# Altium integrated library SHARP BlueStreak.IntLib: 29 symbols (part 3 of 9)
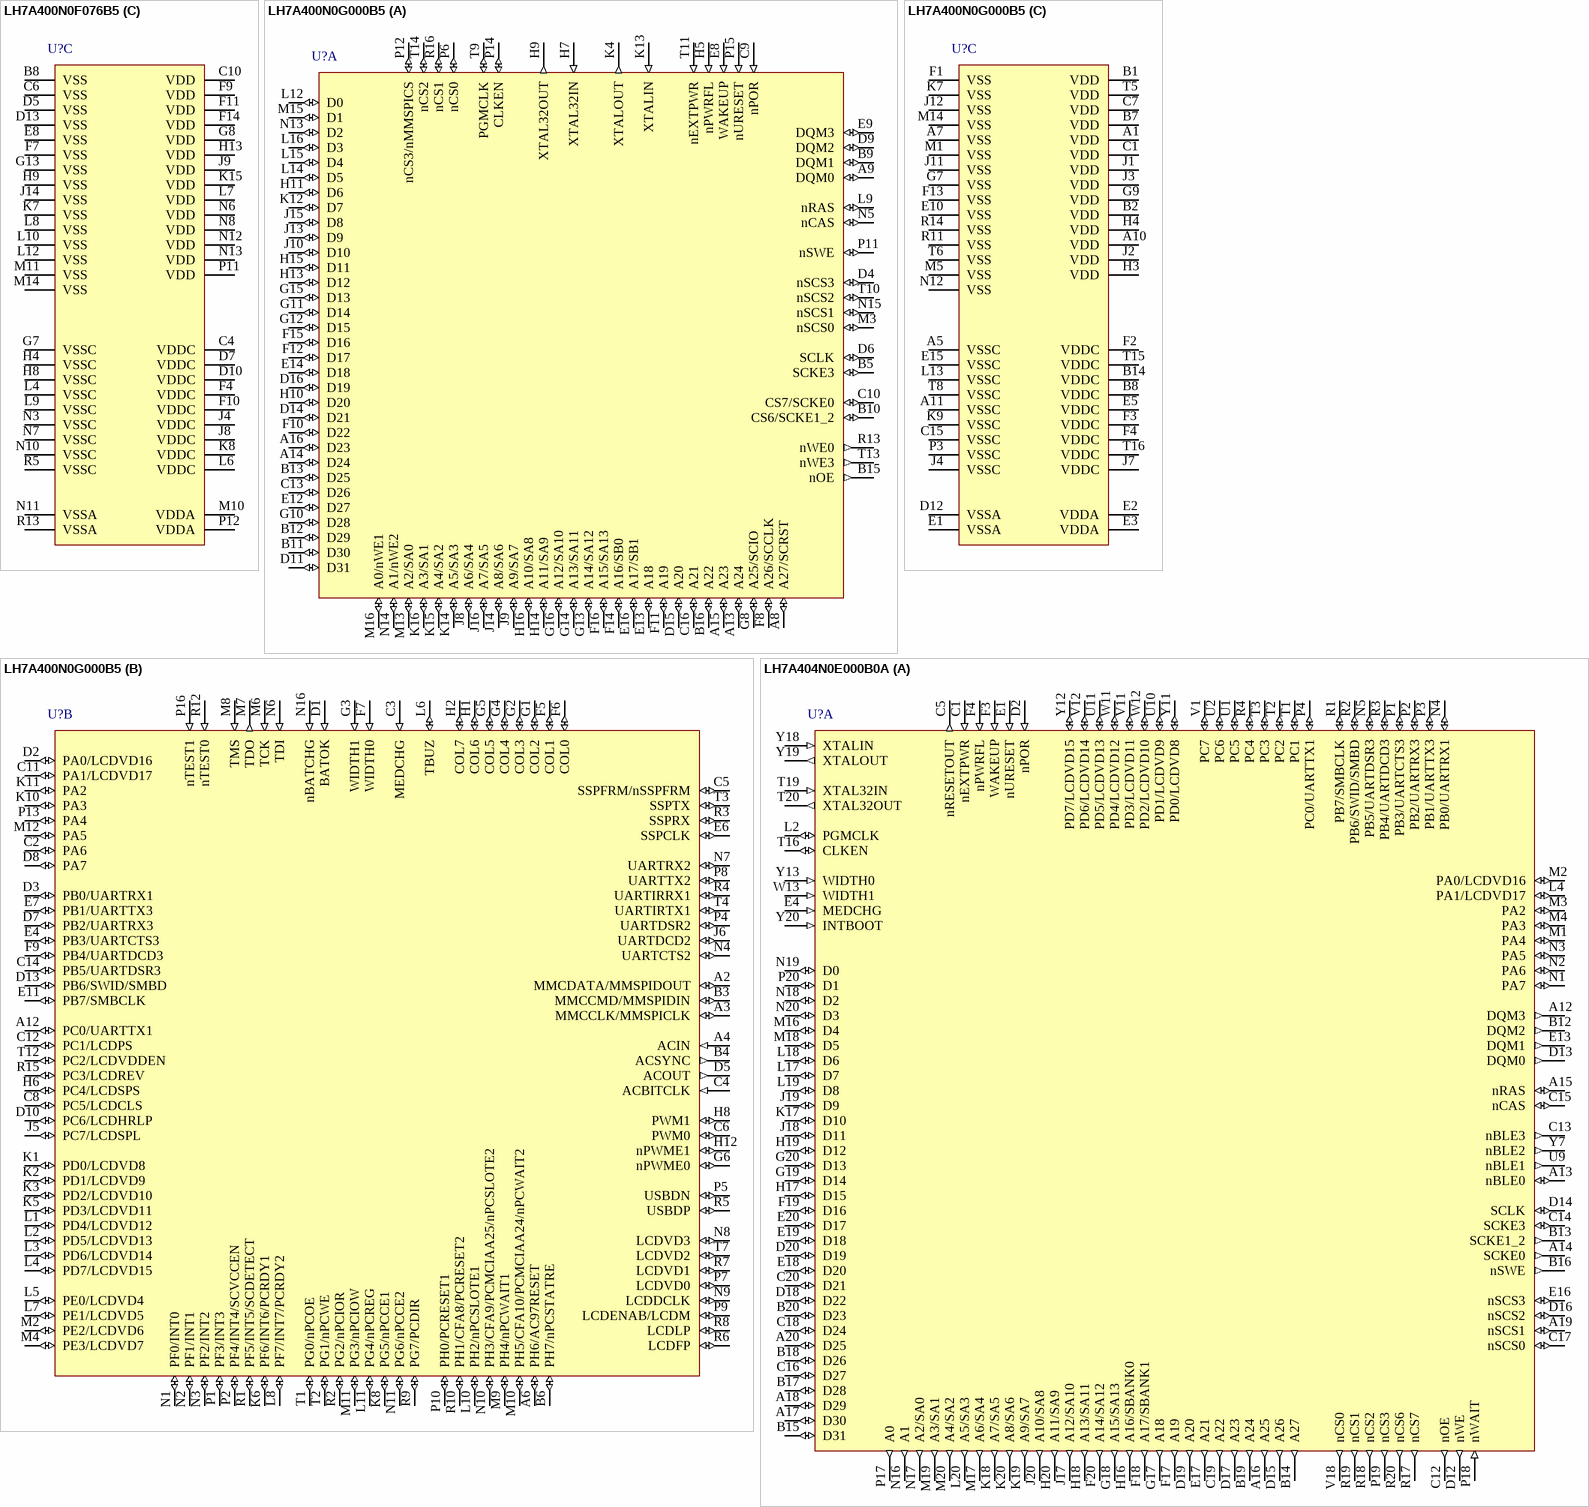
[diagram p35: symbols LH7A400N0F076B5 to LH7A404N0E000B0A]

## LH7A400N0G000B5
designator U?
32-bit ARM9TDMI-Based BlueStreak MMU with 16KB Cache, USB 2.0, JTAG, Color LCD controller, 80KB SRAM, 256-Ball PBGA, Pb-Free; Published: 6-Oct-2005; LatestRevisionDate: 13-Apr-2006; LatestRevisionNote: IPC-7351 Footprint Added.; DatasheetVersion: ver1.2, Nov-2005; PackageVersion: Jan-2005; PackageReference: 256PBGA; Publisher: Altium Limited; PackageDescription: 256-Ball Plastic Ball Grid Array; ComponentLink1Description: Manufacturer Link; ComponentLink1URL: http://www.sharpsma.com/; ComponentLink2Description: Datasheet; ComponentLink2URL: http://document.sharpsma.com/files/LH7A400_DS_V1_2_111505.pdf
footprint 256PBGA (BGA, 256-Leads, Body 17x17mm, Pitch 1mm)
3D model LH7A400-PBGA256 (256-Ball Plastic Ball Grid Array)
part A pins: A8 A27/SCRST (io) "Asynchronous Address Bus/Smart Card Interface Reset", A9 DQM0 (io) "Data Mask for Synchronous Memories", A13 A24 (io) "Asynchronous Address Bus", A14 D24 (io) "Data Bus", A15 A23 (io) "Asynchronous Address Bus", A16 D23 (io) "Data Bus", B5 SCKE3 (io) "Clock Enable 3 for Synchronous Memory", B9 DQM1 (io) "Data Mask for Synchronous Memories", B10 CS6/SCKE1_2 (io) "Asynch Memory Chip Select/Synch Memory Clock Enable 1 or 2", B11 D30 (io) "Data Bus", B12 D29 (io) "Data Bus", B13 D25 (io) "Data Bus", B15 nOE (out) "Asynchronous Memory Output Enable", B16 A22 (io) "Asynchronous Address Bus", C9 nPOR (in) "Power on Reset", C10 CS7/SCKE0 (io) "Asynch Memory Chip Select/Synch Memory Clock Enable", C13 D26 (io) "Data Bus", C16 A21 (io) "Asynchronous Address Bus", D4 nSCS3 (io) "Synchronous Memory Chip Select", D6 SCLK (io) "Synchronous Memory Clock", D9 DQM2 (io) "Data Mask for Synchronous Memories", D11 D31 (io) "Data Bus", D14 D21 (io) "Data Bus", D15 A20 (io) "Asynchronous Address Bus", D16 D19 (io) "Data Bus", E8 WAKEUP (in) "Wake Up", E9 DQM3 (io) "Data Mask for Synchronous Memories", E12 D27 (io) "Data Bus", E13 A18 (io) "Asynchronous Address Bus", E14 D18 (io) "Data Bus", E16 A17/SB1 (io) "Asynchronous Address Bus/Synch Device Bank Address", F8 A26/SCCLK (io) "Asynchronous Address Bus/Smart Card Interface Clock", F10 D22 (io) "Data Bus", F11 A19 (io) "Asynchronous Address Bus", F12 D17 (io) "Data Bus", F14 A16/SB0 (io) "Asynchronous Address Bus/Synch Device Bank Address", F15 D16 (io) "Data Bus", F16 A15/SA13 (io) "Asynchronous Address Bus/Synchronous Address Bus", G8 A25/SCIO (io) "Asynchronous Address Bus/Smart Card Interface IO (Data)", G10 D28 (io) "Data Bus", G11 D14 (io) "Data Bus", G12 D15 (io) "Data Bus", G13 A14/SA12 (io) "Asynchronous Address Bus/Synchronous Address Bus", G14 A13/SA11 (io) "Asynchronous Address Bus/Synchronous Address Bus", G15 D13 (io) "Data Bus", G16 A12/SA10 (io) "Asynchronous Address Bus/Synchronous Address Bus", H5 nPWRFL (in) "Power Fail Signal", H7 XTAL32IN (in) "32.768 kHz Real Time Clock input", H9 XTAL32OUT (out) "32.768 kHz Real Time Clock output", H10 D20 (io) "Data Bus", H11 D6 (io) "Data Bus", H13 D12 (io) "Data Bus", H14 A11/SA9 (io) "Asynchronous Address Bus/Synchronous Address Bus", H15 D11 (io) "Data Bus", H16 A10/SA8 (io) "Asynchronous Address Bus/Synchronous Address Bus", J8 A6/SA4 (io) "Asynchronous Address Bus/Synchronous Address Bus", J9 A9/SA7 (io) "Asynchronous Address Bus/Synchronous Address Bus", J10 D10 (io) "Data Bus", J13 D9 (io) "Data Bus", J14 A8/SA6 (io) "Asynchronous Address Bus/Synchronous Address Bus", J15 D8 (io) "Data Bus", J16 A7/SA5 (io) "Asynchronous Address Bus/Synchronous Address Bus", K4 XTALOUT (out) "14.7456 MHz Crystal Oscillator output", K12 D7 (io) "Data Bus", K13 XTALIN (in) "14.7456 MHz Crystal Oscillator input", K14 A5/SA3 (io) "Asynchronous Address Bus/Synchronous Address Bus", K15 A4/SA2 (io) "Asynchronous Address Bus/Synchronous Address Bus", K16 A3/SA1 (io) "Asynchronous Address Bus/Synchronous Address Bus", L9 nRAS (io) "Synchronous Memory Row Address Strobe", L12 D0 (io) "Data Bus", L14 D5 (io) "Data Bus", L15 D4 (io) "Data Bus", L16 D3 (io) "Data Bus", M3 nSCS0 (io) "Synchronous Memory Chip Select", M13 A2/SA0 (io) "Asynchronous Address Bus/Synchronous Address Bus", M15 D1 (io) "Data Bus", M16 A0/nWE1 (io) "Asynchronous Address Bus/Asynch Memory Write Byte Enable", N5 nCAS (io) "Synchronous Memory Column Address Strobe", N13 D2 (io) "Data Bus", N14 A1/nWE2 (io) "Asynchronous Address Bus/Asynch Memory Write Byte Enable", N15 nSCS1 (io) "Synchronous Memory Chip Select", P6 nCS0 (io) "Asynchronous Memory Chip Select", P11 nSWE (io) "Synchronous Memory Write Enable", P12 nCS3/nMMSPICS (io) "Asynch Memory Chip Select/MultiMediaCard SPI Mode Chip Select", P14 CLKEN (io) "External Oscillator Enable Output", P15 nURESET (in) "User Reset", R13 nWE0 (out) "Asynch Memory Write Byte Enable", R16 nCS1 (io) "Asynchronous Memory Chip Select", T9 PGMCLK (io) "Programmable Clock (14.7456 MHz MAX.)", T10 nSCS2 (io) "Synchronous Memory Chip Select", T11 nEXTPWR (in) "External Power", T13 nWE3 (out) "Asynch Memory Write Byte Enable", T14 nCS2 (io) "Asynchronous Memory Chip Select"
part B pins: A2 MMCDATA/MMSPIDOUT (io) "MultiMediaCard Data/MultiMediaCard SPI Mode Data Output", A3 MMCCLK/MMSPICLK (io) "MultiMediaCard Clock (20 MHz MAX.)/MultiMediaCard SPI Mode Clock", A4 ACIN (in) "Audio Codec (AC97/ACI) Input", A6 PH6/AC97RESET (io) "GPIO - Port H/Audio Codec (AC97) Reset", A12 PC0/UARTTX1 (io) "GPIO - Port C/UART1 Transmit Data Input", B3 MMCCMD/MMSPIDIN (io) "MultiMediaCard Command/MultiMediaCard SPI Mode Data Input", B4 ACSYNC (out) "Audio Codec (AC97/ACI) Synchronization", B6 PH7/nPCSTATRE (io) "GPIO - Port H/Status Read Enable for PC Card (PCMCIA or CompactFlash)", C2 PA6 (io) "GPIO - Port A", C3 MEDCHG (in) "Media Change bit", C4 ACBITCLK (in) "Audio Codec (AC97/ACI) Clock", C5 SSPFRM/nSSPFRM (io) "Synchronous Serial Port Frame Sync", C6 PWM0 (io) "DC-DC Converter Output (Pulse Width Modulated)", C8 PC5/LCDCLS (io) "GPIO - Port C/HR-TFT Row Driver Clock", C11 PA1/LCDVD17 (io) "GPIO - Port ALCD Data pin", C12 PC1/LCDPS (io) "GPIO - Port C/HR-TFT Power Save", C14 PB5/UARTDSR3 (io) "GPIO - Port B/UART3 Data Set Ready", D1 BATOK (in) "Battery OK", D2 PA0/LCDVD16 (io) "GPIO - Port A/LCD Data pin", D3 PB0/UARTRX1 (io) "GPIO - Port B/UART1 Receive Data Input", D5 ACOUT (out) "Audio Codec (AC97/ACI) Output", D7 PB2/UARTRX3 (io) "GPIO - Port B/UART3 Receive Data Input", D8 PA7 (io) "GPIO - Port A", D10 PC6/LCDHRLP (io) "GPIO - Port C/LCD Latch Pulse", D13 PB6/SWID/SMBD (io) "GPIO - Port B/Single Wire Data/Smart Battery Data", E4 PB3/UARTCTS3 (io) "GPIO - Port B/UART3 Clear to Send", E6 SSPCLK (io) "Synchronous Serial Port Clock", E7 PB1/UARTTX3 (io) "GPIO - Port B/UART3 Transmit Data Input", E11 PB7/SMBCLK (io) "GPIO - Port B/Smart Battery Clock", F5 COL1 (io) "Keyboard Interface", F6 COL0 (io) "Keyboard Interface", F7 WIDTH0 (in) "Boot Width Pins", F9 PB4/UARTDCD3 (io) "GPIO - Port B/UART3 Data Carrier Detect", G1 COL2 (io) "Keyboard Interface", G2 COL3 (io) "Keyboard Interface", G3 WIDTH1 (in) "Boot Width Pins", G4 COL4 (io) "Keyboard Interface", G5 COL5 (io) "Keyboard Interface", G6 nPWME0 (io) "DC-DC Converter 0 PWM 0 Enable", H1 COL6 (io) "Keyboard Interface", H2 COL7 (io) "Keyboard Interface", H6 PC4/LCDSPS (io) "GPIO - Port C/HR-TFT Reset Row Driver Counter", H8 PWM1 (io) "DC-DC Converter Output (Pulse Width Modulated)", H12 nPWME1 (io) "DC-DC Converter 1 PWM 1 Enable", J5 PC7/LCDSPL (io) "GPIO - Port C/LCD Start Pulse Left", J6 UARTDCD2 (io) "UART2 Data Carrier Detect Signal", K1 PD0/LCDVD8 (io) "GPIO - Port D/LCD Data pin", K2 PD1/LCDVD9 (io) "GPIO - Port D/LCD Data pin", K3 PD2/LCDVD10 (io) "GPIO - Port D/LCD Data pin", K5 PD3/LCDVD11 (io) "GPIO - Port D/LCD Data pin", K6 PF6/INT6/PCRDY1 (io) "GPIO - Port F/Interrupt/Ready for Card 1 for PC Card (PCMCIA or CompactFlash)", K8 PG5/nPCCE1 (io) "GPIO - Port G/Card Enable 1 for PC Card (PCMCIA or CompactFlash)", K10 PA3 (io) "GPIO - Port A", K11 PA2 (io) "GPIO - Port A", L1 PD4/LCDVD12 (io) "GPIO - Port D/LCD Data pin", L2 PD5/LCDVD13 (io) "GPIO - Port D/LCD Data pin", L3 PD6/LCDVD14 (io) "GPIO - Port D/LCD Data pin", L4 PD7/LCDVD15 (io) "GPIO - Port D/LCD Data pin", L5 PE0/LCDVD4 (io) "GPIO - Port E/LCD Data pin", L6 TBUZ (io) "Timer Buzzer Output (254 kHz MAX.)", L7 PE1/LCDVD5 (io) "GPIO - Port E/LCD Data pin", L8 PF7/INT7/PCRDY2 (io) "GPIO - Port F/Interrupt/Ready for Card 2 for PC Card (PCMCIA or CompactFlash)", L10 PH2/nPCSLOTE1 (io) "GPIO - Port H/Enable Card 1 for PC Card (PCMCIA or CompactFlash)", L11 PG4/nPCREG (io) "GPIO - Port G/Register Memory Access for PC Card (PCMCIA or CompactFlash)", M2 PE2/LCDVD6 (io) "GPIO - Port E/LCD Data pin", M4 PE3/LCDVD7 (io) "GPIO - Port E/LCD Data pin", M6 TCK (in) "JTAG Clock", M7 TDO (out) "JTAG Data Out", M8 TMS (in) "JTAG Test Mode Select", M9 PH4/nPCWAIT1 (io) "GPIO - Port H//WAIT Signal for Card 1 for PC Card (PCMCIA or CompactFlash)", M10 PH5/CFA10/PCMCIAA24/nPCWAIT2 (io) "GPIO - Port H/Address Bit 10 for PC Card (CompactFlash) in Single Card mode/Address Bit 24 for PC Card (PCMCIA) in Single Card mode/WAIT Signal for Card 2 for PC Card (PCMCIA or CompactFlash) in Dual Card mode", M11 PG3/nPCIOW (io) "GPIO - Port G/IO Write Strobe for PC Card (PCMCIA or CompactFlash)", M12 PA5 (io) "GPIO - Port A", N1 PF0/INT0 (io) "GPIO - Port F/Interrupt", N2 PF1/INT1 (io) "GPIO - Port F/Interrupt", N3 PF2/INT2 (io) "GPIO - Port F/Interrupt", N4 UARTCTS2 (io) "UART2 Clear to Send Signal", N6 TDI (in) "JTAG Data In", N7 UARTRX2 (io) "UART2 Receive Data Input", N8 LCDVD3 (io) "LCD Video Data Interface", N9 LCDDCLK (io) "LCD Pixel Clock", N10 PH3/CFA9/PCMCIAA25/nPCSLOTE2 (io) "GPIO - Port H/Address Bit 9 for PC Card (CompactFlash) in Single Card mode/Address Bit 25 for PC Card (PCMCIA)/Enable Card 2 for PC Card (PCMCIA or CompactFlash)", N11 PG6/nPCCE2 (io) "GPIO - Port G/Card Enable 2 for PC Card (PCMCIA or CompactFlash)", N16 nBATCHG (in) "Battery Change", P1 PF3/INT3 (io) "GPIO - Port F/Interrupt", P2 PF4/INT4/SCVCCEN (io) "GPIO - Port F/External IRQ Interrupt/Smart Card Supply Voltage Enable", P4 UARTDSR2 (io) "UART2 Data Set Ready Signal", P5 USBDN (io) "USB Device Data Negative (Differential Pair)", P7 LCDVD0 (io) "LCD Video Data Interface", P8 UARTTX2 (io) "UART2 Transmit Data Output", P9 LCDENAB/LCDM (io) "LCD TFT Data Enable/LCD STN AC Bias", P10 PH0/PCRESET1 (io) "GPIO - Port H/Reset Card 1 for PC Card (PCMCIA or CompactFlash)", P13 PA4 (io) "GPIO - Port A", P16 nTEST1 (in) "Test Pin. Pull LOW for JTAG mode", R1 PF5/INT5/SCDETECT (io) "GPIO - Port F/Interrupt/Smart Card Interface Card Detect Signal", R2 PG2/nPCIOR (io) "GPIO - Port G/IO Read Strobe for PC Card (PCMCIA or CompactFlash)", R3 SSPRX (io) "Synchronous Serial Port Receive", R4 UARTIRRX1 (io) "IrDA Receive", R5 USBDP (io) "USB Device Data Positive (Differential Pair)", R6 LCDFP (io) "LCD Frame Synchronization pulse", R7 LCDVD1 (io) "LCD Video Data Interface", R8 LCDLP (io) "LCD Line Synchronization pulse", R9 PG7/PCDIR (io) "GPIO - Port G/Direction for PC Card (PCMCIA or CompactFlash)", R10 PH1/CFA8/PCRESET2 (io) "GPIO - Port H/Address Bit 8 for PC Card (CompactFlash)/Reset Card 2 for PC Card (PCMCIA or CompactFlash)", R12 nTEST0 (in) "Test Pin. Pull LOW for JTAG mode", R15 PC3/LCDREV (io) "GPIO - Port C/HR-TFT Gray Reverse", T1 PG0/nPCOE (io) "GPIO - Port G/Output Enable for PC Card (PCMCIA or CompactFlash)", T2 PG1/nPCWE (io) "GPIO - Port G/Write Enable for PC Card (PCMCIA or CompactFlash)", T3 SSPTX (io) "Synchronous Serial Port Transmit", T4 UARTIRTX1 (io) "IrDA Transmit", T7 LCDVD2 (io) "LCD Video Data Interface", T12 PC2/LCDVDDEN (io) "GPIO - Port C/HR-TFT Power Sequence Control"
part C pins: A1 VDD (power) "I/O Ring Power", A5 VSSC (power) "Core Ground", A7 VSS (power) "I/O Ring Ground", A10 VDD (power) "I/O Ring Power", A11 VSSC (power) "Core Ground", B1 VDD (power) "I/O Ring Power", B2 VDD (power) "I/O Ring Power", B7 VDD (power) "I/O Ring Power", B8 VDDC (power) "Core Power", B14 VDDC (power) "Core Power", C1 VDD (power) "I/O Ring Power", C7 VDD (power) "I/O Ring Power", C15 VSSC (power) "Core Ground", D12 VSSA (power) "Analog Ground for PLL1 and PLL2", E1 VSSA (power) "Analog Ground for PLL1 and PLL2", E2 VDDA (power) "Analog Power for PLL1 and PLL2", E3 VDDA (power) "Analog Power for PLL1 and PLL2", E5 VDDC (power) "Core Power", E10 VSS (power) "I/O Ring Ground", E15 VSSC (power) "Core Ground", F1 VSS (power) "I/O Ring Ground", F2 VDDC (power) "Core Power", F3 VDDC (power) "Core Power", F4 VDDC (power) "Core Power", F13 VSS (power) "I/O Ring Ground", G7 VSS (power) "I/O Ring Ground", G9 VDD (power) "I/O Ring Power", H3 VDD (power) "I/O Ring Power", H4 VDD (power) "I/O Ring Power", J1 VDD (power) "I/O Ring Power", J2 VDD (power) "I/O Ring Power", J3 VDD (power) "I/O Ring Power", J4 VSSC (power) "Core Ground", J7 VDDC (power) "Core Power", J11 VSS (power) "I/O Ring Ground", J12 VSS (power) "I/O Ring Ground", K7 VSS (power) "I/O Ring Ground", K9 VSSC (power) "Core Ground", L13 VSSC (power) "Core Ground", M1 VSS (power) "I/O Ring Ground", M5 VSS (power) "I/O Ring Ground", M14 VSS (power) "I/O Ring Ground", N12 VSS (power) "I/O Ring Ground", P3 VSSC (power) "Core Ground", R11 VSS (power) "I/O Ring Ground", R14 VSS (power) "I/O Ring Ground", T5 VDD (power) "I/O Ring Power", T6 VSS (power) "I/O Ring Ground", T8 VSSC (power) "Core Ground", T15 VDDC (power) "Core Power", T16 VDDC (power) "Core Power"

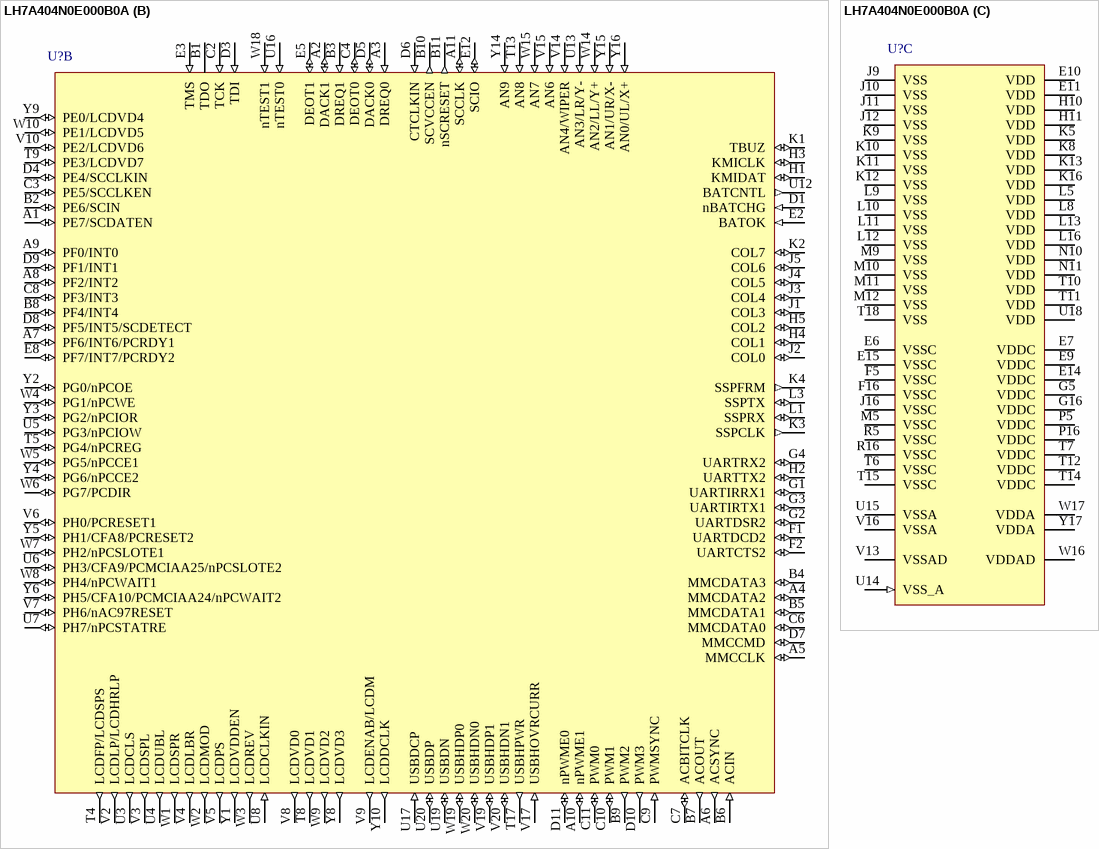
[diagram p5: symbol LH7A404N0E000B0A]

## LH7A404N0E000B0A
designator U?
32-bit ARM9TDMI-Based BlueStreak MMU with 16KB Cache, USB 2.0, JTAG, Color LCD controller, 80KB SRAM, 324-Ball CABGA; Published: 6-Oct-2005; LatestRevisionDate: 13-Apr-2006; LatestRevisionNote: IPC-7351 Footprint Added.; DatasheetVersion: ver1.4, Apr-2006; PackageVersion: Jan-2005; PackageReference: 324CABGA; Publisher: Altium Limited; PackageDescription: 324-Ball Chip Array Ball Grid Array; ComponentLink1Description: Manufacturer Link; ComponentLink1URL: http://www.sharpsma.com/; ComponentLink2Description: Datasheet; ComponentLink2URL: http://document.sharpsma.com/files/LH7A404_DS_V1_4_041406.pdf
footprint 324CABGA (BGA, 324-Leads, Body 17x17mm, Pitch 0.8mm)
3D model LH7A404-CABGA324 (324-Ball Chip Array Ball Grid Array)
part A pins: A12 DQM3 (out) "Data Mask for Synchronous Memories", A13 nBLE0 (io) "Byte Lane Enable 0", A14 SCKE0 (out) "Clock Enable 0 for Synchronous Memory", A15 nRAS (io) "Synchronous Memory Row Address Strobe", A16 A25 (out) "Asynchronous Address Bus", A17 D30 (io) "Data Bus", A18 D29 (io) "Data Bus", A19 nSCS1 (io) "Synchronous Memory Chip Select", A20 D25 (io) "Data Bus", B12 DQM2 (out) "Data Mask for Synchronous Memories", B13 SCKE1_2 (out) "Clock Enable 1 or 2 for Synchronous Memory", B14 A27 (out) "Asynchronous Address Bus", B15 D31 (io) "Data Bus", B16 nSWE (out) "Synchronous Memory Write Enable", B17 D28 (io) "Data Bus", B18 D26 (io) "Data Bus", B19 A24 (out) "Asynchronous Address Bus", B20 D23 (io) "Data Bus", C1 nEXTPWR (in) "External Power", C5 nRESETOUT (out) "Reset Output to external devices", C12 nOE (out) "Asynchronous Memory Output Enable", C13 nBLE3 (out) "Byte Lane Enable 3", C14 SCKE3 (io) "Clock Enable 3 for Synchronous Memory", C15 nCAS (io) "Synchronous Memory Column Address Strobe", C16 D27 (io) "Data Bus", C17 nSCS0 (io) "Synchronous Memory Chip Select", C18 D24 (io) "Data Bus", C19 A22 (out) "Asynchronous Address Bus", C20 D21 (io) "Data Bus", D2 nPOR (in) "Power on Reset", D12 nWE (out) "Asynchronous Memory Write Enable", D13 DQM0 (out) "Data Mask for Synchronous Memories", D14 SCLK (io) "Synchronous Memory Clock", D15 A26 (out) "Asynchronous Address Bus", D16 nSCS2 (io) "Synchronous Memory Chip Select", D17 A23 (out) "Asynchronous Address Bus", D18 D22 (io) "Data Bus", D19 A20 (out) "Asynchronous Address Bus", D20 D19 (io) "Data Bus", E1 nURESET (in) "User Reset", E4 MEDCHG (in) "Media Change bit", E13 DQM1 (out) "Data Mask for Synchronous Memories", E16 nSCS3 (io) "Synchronous Memory Chip Select", E17 A21 (out) "Asynchronous Address Bus", E18 D20 (io) "Data Bus", E19 D18 (io) "Data Bus", E20 D17 (io) "Data Bus", F3 WAKEUP (in) "Wake Up", F4 nPWRFL (in) "Power Fail Signal", F17 A19 (out) "Asynchronous Address Bus", F18 A17/SBANK1 (out) "Asynchronous Address Bus/Synchronous Bank", F19 D16 (io) "Data Bus", F20 A14/SA12 (out) "Asynchronous Address Bus/Synchronous Address Bus", G17 A18 (out) "Asynchronous Address Bus", G18 A15/SA13 (out) "Asynchronous Address Bus/Synchronous Address Bus", G19 D14 (io) "Data Bus", G20 D13 (io) "Data Bus", H16 A16/SBANK0 (out) "Asynchronous Address Bus/Synchronous Bank", H17 D15 (io) "Data Bus", H18 A13/SA11 (out) "Asynchronous Address Bus/Synchronous Address Bus", H19 D12 (io) "Data Bus", H20 A11/SA9 (out) "Asynchronous Address Bus/Synchronous Address Bus", J17 A12/SA10 (out) "Asynchronous Address Bus/Synchronous Address Bus", J18 D11 (io) "Data Bus", J19 D9 (io) "Data Bus", J20 A10/SA8 (out) "Asynchronous Address Bus/Synchronous Address Bus", K17 D10 (io) "Data Bus", K18 A7/SA5 (out) "Asynchronous Address Bus/Synchronous Address Bus", K19 A9/SA7 (out) "Asynchronous Address Bus/Synchronous Address Bus", K20 A8/SA6 (out) "Asynchronous Address Bus/Synchronous Address Bus", L2 PGMCLK (io) "Programmable Clock (14.7456 MHz MAX.)", L4 PA1/LCDVD17 (io) "GPIO - Port ALCD Data pin", L17 D7 (io) "Data Bus", L18 D6 (io) "Data Bus", L19 D8 (io) "Data Bus", L20 A5/SA3 (out) "Asynchronous Address Bus/Synchronous Address Bus", M1 PA4 (io) "GPIO - Port A", M2 PA0/LCDVD16 (io) "GPIO - Port A/LCD Data pin", M3 PA2 (io) "GPIO - Port A", M4 PA3 (io) "GPIO - Port A", M16 D4 (io) "Data Bus", M17 A6/SA4 (out) "Asynchronous Address Bus/Synchronous Address Bus", M18 D5 (io) "Data Bus", M19 A3/SA1 (out) "Asynchronous Address Bus/Synchronous Address Bus", M20 A4/SA2 (out) "Asynchronous Address Bus/Synchronous Address Bus", N1 PA7 (io) "GPIO - Port A", N2 PA6 (io) "GPIO - Port A", N3 PA5 (io) "GPIO - Port A", N4 PB0/UARTRX1 (io) "GPIO - Port B/UART1 Receive Data Input", N5 PB5/UARTDSR3 (io) "GPIO - Port B/UART3 Data Set Ready", N16 A1 (out) "Asynchronous Address Bus", N17 A2/SA0 (out) "Asynchronous Address Bus/Synchronous Address Bus", N18 D2 (io) "Data Bus", N19 D0 (io) "Data Bus", N20 D3 (io) "Data Bus", P1 PB3/UARTCTS3 (io) "GPIO - Port B/UART3 Clear to Send", P2 PB2/UARTRX3 (io) "GPIO - Port B/UART3 Receive Data Input", P3 PB1/UARTTX3 (io) "GPIO - Port B/UART3 Transmit Data Input", P4 PC0/UARTTX1 (io) "GPIO - Port C/UART1 Transmit Data Input", P17 A0 (out) "Asynchronous Address Bus", P18 nWAIT (in) "Asynchronous Memory Wait; pull HIGH if unused", P19 nCS3 (out) "Asynchronous Memory Chip Select", P20 D1 (io) "Data Bus", R1 PB7/SMBCLK (io) "GPIO - Port B/Smart Battery Clock", R2 PB6/SWID/SMBD (io) "GPIO - Port B/Single Wire Data/Smart Battery Data", R3 PB4/UARTDCD3 (io) "GPIO - Port B/UART3 Data Carrier Detect", R4 PC4 (io) "GPIO - Port C", R17 nCS7 (out) "Asynchronous Memory Chip Select", R18 nCS2 (out) "Asynchronous Memory Chip Select", R19 nCS1 (out) "Asynchronous Memory Chip Select", R20 nCS6 (out) "Asynchronous Memory Chip Select", T1 PC1 (io) "GPIO - Port C", T2 PC2 (io) "GPIO - Port C", T3 PC3 (io) "GPIO - Port C", T16 CLKEN (io) "External Oscillator Enable Output", T19 XTAL32IN (in) "32.768 kHz Real Time Clock input", T20 XTAL32OUT (out) "32.768 kHz Real Time Clock output", U1 PC5 (io) "GPIO - Port C", U2 PC6 (io) "GPIO - Port C", U9 nBLE1 (out) "Byte Lane Enable 1", U10 PD1/LCDVD9 (io) "GPIO - Port D/LCD Data pin", U11 PD5/LCDVD13 (io) "GPIO - Port D/LCD Data pin", V1 PC7 (io) "GPIO - Port C", V11 PD3/LCDVD11 (io) "GPIO - Port D/LCD Data pin", V12 PD6/LCDVD14 (io) "GPIO - Port D/LCD Data pin", V18 nCS0 (out) "Asynchronous Memory Chip Select", W11 PD4/LCDVD12 (io) "GPIO - Port D/LCD Data pin", W12 PD2/LCDVD10 (io) "GPIO - Port D/LCD Data pin", W13 WIDTH1 (in) "Boot Width Pins", Y7 nBLE2 (out) "Byte Lane Enable 2", Y11 PD0/LCDVD8 (io) "GPIO - Port D/LCD Data pin", Y12 PD7/LCDVD15 (io) "GPIO - Port D/LCD Data pin", Y13 WIDTH0 (in) "Boot Width Pins", Y18 XTALIN (in) "14.7456 MHz Crystal Oscillator input", Y19 XTALOUT (out) "14.7456 MHz Crystal Oscillator output", Y20 INTBOOT (in) "(Low) Selects boot device according to MEDCHG bit. (High) lower 64KB addresses mapped to internal Boot ROM"
part B pins: A1 PE7/SCDATEN (io) "GPIO - Port E", A2 DACK1 (io) "DMA Acknowledge", A3 DREQ0 (in) "DMA Request", A4 MMCDATA2 (io) "MultiMediaCard Data", A5 MMCCLK (io) "MultiMediaCard Clock (20 MHz MAX.)", A6 ACSYNC (out) "Audio Codec (AC97/ACI) Synchronization", A7 PF6/INT6/PCRDY1 (io) "GPIO - Port F/Interrupt/Ready for Card 1 for PC Card (PCMCIA or CompactFlash)", A8 PF2/INT2 (io) "GPIO - Port F/Interrupt", A9 PF0/INT0 (io) "GPIO - Port F/Interrupt", A10 nPWME1 (io) "DC-DC Converter 1 PWM 1 Enable", A11 SCCLK (io) "Smart Card Interface Clock", B1 TDO "JTAG Data Out", B2 PE6/SCIN (io) "GPIO - Port E", B3 DREQ1 (in) "DMA Request", B4 MMCDATA3 (io) "MultiMediaCard Data", B5 MMCDATA1 (io) "MultiMediaCard Data", B6 ACIN (in) "Audio Codec (AC97/ACI) Input", B7 ACOUT (out) "Audio Codec (AC97/ACI) Output", B8 PF4/INT4 (io) "GPIO - Port F/Interrupt", B9 PWM2 (out) "PWM Output", B10 SCVCCEN (out) "Smart Card Interface VCC Enable", B11 nSCRESET (out) "Smart Card Interface Reset", C2 TCK (in) "JTAG Clock", C3 PE5/SCCLKEN (io) "GPIO - Port E", C4 DEOT0 (io) "DMA End of Transfer", C6 MMCDATA0 (io) "MultiMediaCard Data", C7 ACBITCLK (io) "Audio Codec (AC97/ACI) Clock", C8 PF3/INT3 (io) "GPIO - Port F/Interrupt", C9 PWMSYNC (in) "PWM Synchronizing Input for PWM2", C10 PWM1 (io) "DC-DC Converter Output (Pulse Width Modulated)", C11 PWM0 (io) "DC-DC Converter Output (Pulse Width Modulated)", D1 nBATCHG (in) "Battery Change", D3 TDI (in) "JTAG Data In", D4 PE4/SCCLKIN (io) "GPIO - Port E", D5 DACK0 (io) "DMA Acknowledge", D6 CTCLKIN (in) "Counter Timer Clock Input", D7 MMCCMD (io) "MultiMediaCard Command", D8 PF5/INT5/SCDETECT (io) "GPIO - Port F/Interrupt/Smart Card Interface Card Detect Signal", D9 PF1/INT1 (io) "GPIO - Port F/Interrupt", D10 PWM3 (out) "PWM Output", D11 nPWME0 (io) "DC-DC Converter 0 PWM 0 Enable", E2 BATOK (in) "Battery OK", E3 TMS (in) "JTAG Test Mode Select", E5 DEOT1 (io) "DMA End of Transfer", E8 PF7/INT7/PCRDY2 (io) "GPIO - Port F/Interrupt/Ready for Card 2 for PC Card (PCMCIA or CompactFlash)", E12 SCIO (io) "Smart Card Interface I/O", F1 UARTDCD2 (io) "UART2 Data Carrier Detect Signal", F2 UARTCTS2 (io) "UART2 Clear to Send Signal", G1 UARTIRRX1 (io) "IrDA Receive", G2 UARTDSR2 (io) "UART2 Data Set Ready Signal", G3 UARTIRTX1 (io) "IrDA Transmit", G4 UARTRX2 (io) "UART2 Receive Data Input", H1 KMIDAT (io) "Keyboard/Mouse Data", H2 UARTTX2 (io) "UART2 Transmit Data Output", H3 KMICLK (io) "Keyboard/Mouse Clock", H4 COL1 (io) "Keyboard Interface", H5 COL2 (io) "Keyboard Interface", J1 COL3 (io) "Keyboard Interface", J2 COL0 (io) "Keyboard Interface", J3 COL4 (io) "Keyboard Interface", J4 COL5 (io) "Keyboard Interface", J5 COL6 (io) "Keyboard Interface", K1 TBUZ (io) "Timer Buzzer Output (254 kHz MAX.)", K2 COL7 (io) "Keyboard Interface", K3 SSPCLK (out) "Synchronous Serial Port Clock", K4 SSPFRM (out) "Synchronous Serial Port Frame Sync", L1 SSPRX (io) "Synchronous Serial Port Receive", L3 SSPTX (io) "Synchronous Serial Port Transmit", T4 LCDFP/LCDSPS (out) "LCD Frame Pulse/ALI Reset Row Driver Counter", T5 PG4/nPCREG (io) "GPIO - Port G/Register Memory Access for PC Card (PCMCIA or CompactFlash)", T8 LCDVD1 (out) "LCD Video Data Interface", T9 PE3/LCDVD7 (io) "GPIO - Port E/LCD Data pin", T13 AN8 (in) "ADC Input", T17 USBHPWR (out) "USB Host Power", U3 LCDCLS (out) "ALI Clock for Row Drivers", U4 LCDUBL (out) "ALI Up, Down signal for reverse scanning", U5 PG3/nPCIOW (io) "GPIO - Port G/IO Write Strobe for PC Card (PCMCIA or CompactFlash)", U6 PH3/CFA9/PCMCIAA25/nPCSLOTE2 (io) "GPIO - Port H/Address Bit 9 for PC Card (CompactFlash) in Single Card mode/Address Bit 25 for PC Card (PCMCIA)/Enable Card 2 for PC Card (PCMCIA or CompactFlash)", U7 PH7/nPCSTATRE (io) "GPIO - Port H/Status Read Enable for PC Card (PCMCIA or CompactFlash)", U8 LCDCLKIN (in) "External Clock Input for LCD controller", U12 BATCNTL (out) "Battery Control for A/D controller battery monitor", U13 AN3/LR/Y- (in) "ADC Input/Touch Screen Controller Lower Right/Touch Screen Controller Y-", U16 nTEST0 (in) "Test Pin. Pull LOW for JTAG mode", U17 USBDCP (in) "USB Device Full Speed Pull-up Resistor Control", U19 USBDN (io) "USB Device Data Negative (Differential Pair)", U20 USBDP (io) "USB Device Data Positive (Differential Pair)", V2 LCDLP/LCDHRLP (out) "LCD Linepulse/ALI Latch Pulse", V3 LCDSPL (out) "ALI Start Pulse Left for reverse scanning", V4 LCDLBR (out) "ALI Output for reverse scanning", V5 LCDPS (out) "ALI Power Save", V6 PH0/PCRESET1 (io) "GPIO - Port H/Reset Card 1 for PC Card (PCMCIA or CompactFlash)", V7 PH6/nAC97RESET (io) "GPIO - Port H/AC97 Reset", V8 LCDVD0 (out) "LCD Video Data Interface", V9 LCDENAB/LCDM (out) "LCD TFT Data Enable/LCD STN AC Bias", V10 PE2/LCDVD6 (io) "GPIO - Port E/LCD Data pin", V14 AN4/WIPER (in) "ADC Input/Wiper input from 5-wire Touch Screen", V15 AN6 (in) "ADC Input", V17 USBHOVRCURR (in) "USB Host Overcurrent", V19 USBHDP1 (io) "USB Data Host Positive 1 (Differential Pair)", V20 USBHDN1 (io) "USB Data Host Negative 1 (Differential Pair)", W1 LCDSPR (out) "ALI Start Pulse Right for normal scanning", W2 LCDMOD (out) "ALI MOD Signal used by the row driver", W3 LCDREV (out) "ALI Reverse", W4 PG1/nPCWE (io) "GPIO - Port G/Write Enable for PC Card (PCMCIA or CompactFlash)", W5 PG5/nPCCE1 (io) "GPIO - Port G/Card Enable 1 for PC Card (PCMCIA or CompactFlash)", W6 PG7/PCDIR (io) "GPIO - Port G/Direction for PC Card (PCMCIA or CompactFlash)", W7 PH2/nPCSLOTE1 (io) "GPIO - Port H/Enable Card 1 for PC Card (PCMCIA or CompactFlash)", W8 PH4/nPCWAIT1 (io) "GPIO - Port H//WAIT Signal for Card 1 for PC Card (PCMCIA or CompactFlash)", W9 LCDVD2 (out) "LCD Video Data Interface", W10 PE1/LCDVD5 (io) "GPIO - Port E/LCD Data pin", W14 AN2/LL/Y+ (in) "ADC Input/Touch Screen Controller Lower Left/Touch Screen Controller Y", W15 AN7 (in) "ADC Input", W18 nTEST1 (in) "Test Pin. Pull LOW for JTAG mode", W19 USBHDP0 (io) "USB Data Host Positive 0 (Differential Pair)", W20 USBHDN0 (io) "USB Data Host Negative 0 (Differential Pair)", Y1 LCDVDDEN (out) "ALI Power Sequence Control", Y2 PG0/nPCOE (io) "GPIO - Port G/Output Enable for PC Card (PCMCIA or CompactFlash)", Y3 PG2/nPCIOR (io) "GPIO - Port G/IO Read Strobe for PC Card (PCMCIA or CompactFlash)", Y4 PG6/nPCCE2 (io) "GPIO - Port G/Card Enable 2 for PC Card (PCMCIA or CompactFlash)", Y5 PH1/CFA8/PCRESET2 (io) "GPIO - Port H/Address Bit 8 for PC Card (CompactFlash)/Reset Card 2 for PC Card (PCMCIA or CompactFlash)", Y6 PH5/CFA10/PCMCIAA24/nPCWAIT2 (io) "GPIO - Port H/Address Bit 10 for PC Card (CompactFlash) in Single Card mode/Address Bit 24 for PC Card (PCMCIA) in Single Card mode/WAIT Signal for Card 2 for PC Card (PCMCIA or CompactFlash) in Dual Card mode", Y8 LCDVD3 (out) "LCD Video Data Interface", Y9 PE0/LCDVD4 (io) "GPIO - Port E/LCD Data pin", Y10 LCDDCLK (out) "LCD Pixel Clock", Y14 AN9 (in) "ADC Input", Y15 AN1/UR/X- (in) "ADC Input/Touch Screen Controller Upper Right/Touch Screen Controller X-", Y16 AN0/UL/X+ (in) "ADC Input/Touch Screen Controller Upper Left/Touch Screen Controller X"
part C pins: E6 VSSC (power) "Core Ground", E7 VDDC (power) "Core Power", E9 VDDC (power) "Core Power", E10 VDD (power) "I/O Ring Power", E11 VDD (power) "I/O Ring Power", E14 VDDC (power) "Core Power", E15 VSSC (power) "Core Ground", F5 VSSC (power) "Core Ground", F16 VSSC (power) "Core Ground", G5 VDDC (power) "Core Power", G16 VDDC (power) "Core Power", H10 VDD (power) "I/O Ring Power", H11 VDD (power) "I/O Ring Power", J9 VSS (power) "I/O Ring Ground", J10 VSS (power) "I/O Ring Ground", J11 VSS (power) "I/O Ring Ground", J12 VSS (power) "I/O Ring Ground", J16 VSSC (power) "Core Ground", K5 VDD (power) "I/O Ring Power", K8 VDD (power) "I/O Ring Power", K9 VSS (power) "I/O Ring Ground", K10 VSS (power) "I/O Ring Ground", K11 VSS (power) "I/O Ring Ground", K12 VSS (power) "I/O Ring Ground", K13 VDD (power) "I/O Ring Power", K16 VDD (power) "I/O Ring Power", L5 VDD (power) "I/O Ring Power", L8 VDD (power) "I/O Ring Power", L9 VSS (power) "I/O Ring Ground", L10 VSS (power) "I/O Ring Ground", L11 VSS (power) "I/O Ring Ground", L12 VSS (power) "I/O Ring Ground", L13 VDD (power) "I/O Ring Power", L16 VDD (power) "I/O Ring Power", M5 VSSC (power) "Core Ground", M9 VSS (power) "I/O Ring Ground", M10 VSS (power) "I/O Ring Ground", M11 VSS (power) "I/O Ring Ground", M12 VSS (power) "I/O Ring Ground", N10 VDD (power) "I/O Ring Power", N11 VDD (power) "I/O Ring Power", P5 VDDC (power) "Core Power", P16 VDDC (power) "Core Power", R5 VSSC (power) "Core Ground", R16 VSSC (power) "Core Ground", T6 VSSC (power) "Core Ground", T7 VDDC (power) "Core Power", T10 VDD (power) "I/O Ring Power", T11 VDD (power) "I/O Ring Power", T12 VDDC (power) "Core Power", T14 VDDC (power) "Core Power", T15 VSSC (power) "Core Ground", T18 VSS (power) "I/O Ring Ground", U14 VSS_A (in) "Connect pin to either VSS or VSSA", U15 VSSA (power) "Analog Ground for PLL1 and PLL2", U18 VDD (power) "I/O Ring Power", V13 VSSAD (power) "Analog Ground for A/D, Touch Screen Controller", V16 VSSA (power) "Analog Ground for PLL1 and PLL2", W16 VDDAD (power) "Analog Power for A/D, Touch Screen Controller", W17 VDDA (power) "Analog Power for PLL1 and PLL2", Y17 VDDA (power) "Analog Power for PLL1 and PLL2"

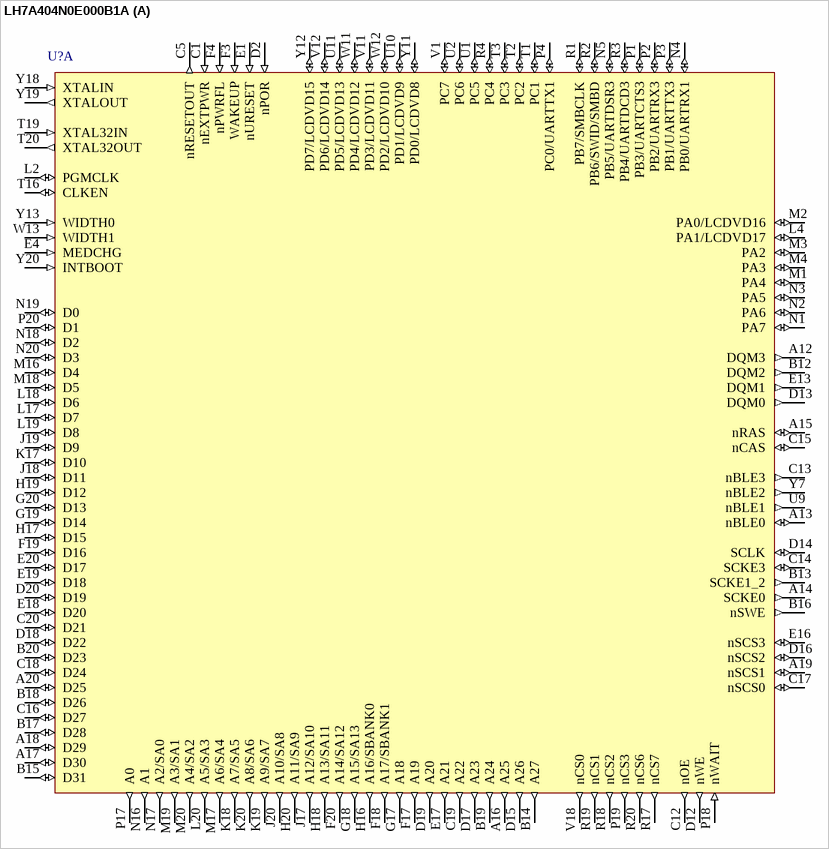
[diagram p6: symbol LH7A404N0E000B1A]

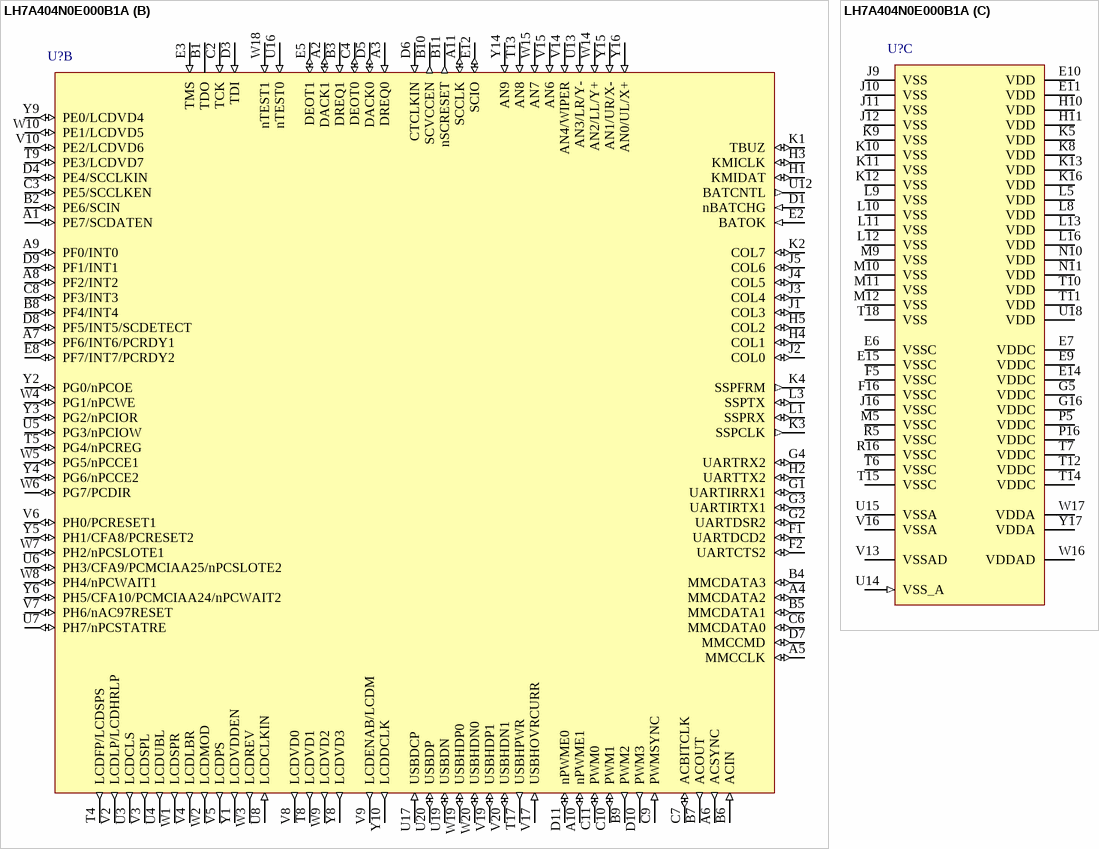
[diagram p7: symbol LH7A404N0E000B1A]

## LH7A404N0E000B1A
designator U?
32-bit ARM9TDMI-Based BlueStreak MMU with 16KB Cache, USB 2.0, JTAG, Color LCD controller, 80KB SRAM, 324-Ball CABGA; Published: 6-Oct-2005; LatestRevisionDate: 13-Apr-2006; LatestRevisionNote: IPC-7351 Footprint Added.; DatasheetVersion: ver1.4, Apr-2006; PackageVersion: Jan-2005; PackageReference: 324CABGA; Publisher: Altium Limited; PackageDescription: 324-Ball Chip Array Ball Grid Array; ComponentLink1Description: Manufacturer Link; ComponentLink1URL: http://www.sharpsma.com/; ComponentLink2Description: Datasheet; ComponentLink2URL: http://document.sharpsma.com/files/LH7A404_DS_V1_4_041406.pdf
footprint 324CABGA (BGA, 324-Leads, Body 17x17mm, Pitch 0.8mm)
3D model LH7A404-CABGA324 (324-Ball Chip Array Ball Grid Array)
part A pins: A12 DQM3 (out) "Data Mask for Synchronous Memories", A13 nBLE0 (io) "Byte Lane Enable 0", A14 SCKE0 (out) "Clock Enable 0 for Synchronous Memory", A15 nRAS (io) "Synchronous Memory Row Address Strobe", A16 A25 (out) "Asynchronous Address Bus", A17 D30 (io) "Data Bus", A18 D29 (io) "Data Bus", A19 nSCS1 (io) "Synchronous Memory Chip Select", A20 D25 (io) "Data Bus", B12 DQM2 (out) "Data Mask for Synchronous Memories", B13 SCKE1_2 (out) "Clock Enable 1 or 2 for Synchronous Memory", B14 A27 (out) "Asynchronous Address Bus", B15 D31 (io) "Data Bus", B16 nSWE (out) "Synchronous Memory Write Enable", B17 D28 (io) "Data Bus", B18 D26 (io) "Data Bus", B19 A24 (out) "Asynchronous Address Bus", B20 D23 (io) "Data Bus", C1 nEXTPWR (in) "External Power", C5 nRESETOUT (out) "Reset Output to external devices", C12 nOE (out) "Asynchronous Memory Output Enable", C13 nBLE3 (out) "Byte Lane Enable 3", C14 SCKE3 (io) "Clock Enable 3 for Synchronous Memory", C15 nCAS (io) "Synchronous Memory Column Address Strobe", C16 D27 (io) "Data Bus", C17 nSCS0 (io) "Synchronous Memory Chip Select", C18 D24 (io) "Data Bus", C19 A22 (out) "Asynchronous Address Bus", C20 D21 (io) "Data Bus", D2 nPOR (in) "Power on Reset", D12 nWE (out) "Asynchronous Memory Write Enable", D13 DQM0 (out) "Data Mask for Synchronous Memories", D14 SCLK (io) "Synchronous Memory Clock", D15 A26 (out) "Asynchronous Address Bus", D16 nSCS2 (io) "Synchronous Memory Chip Select", D17 A23 (out) "Asynchronous Address Bus", D18 D22 (io) "Data Bus", D19 A20 (out) "Asynchronous Address Bus", D20 D19 (io) "Data Bus", E1 nURESET (in) "User Reset", E4 MEDCHG (in) "Media Change bit", E13 DQM1 (out) "Data Mask for Synchronous Memories", E16 nSCS3 (io) "Synchronous Memory Chip Select", E17 A21 (out) "Asynchronous Address Bus", E18 D20 (io) "Data Bus", E19 D18 (io) "Data Bus", E20 D17 (io) "Data Bus", F3 WAKEUP (in) "Wake Up", F4 nPWRFL (in) "Power Fail Signal", F17 A19 (out) "Asynchronous Address Bus", F18 A17/SBANK1 (out) "Asynchronous Address Bus/Synchronous Bank", F19 D16 (io) "Data Bus", F20 A14/SA12 (out) "Asynchronous Address Bus/Synchronous Address Bus", G17 A18 (out) "Asynchronous Address Bus", G18 A15/SA13 (out) "Asynchronous Address Bus/Synchronous Address Bus", G19 D14 (io) "Data Bus", G20 D13 (io) "Data Bus", H16 A16/SBANK0 (out) "Asynchronous Address Bus/Synchronous Bank", H17 D15 (io) "Data Bus", H18 A13/SA11 (out) "Asynchronous Address Bus/Synchronous Address Bus", H19 D12 (io) "Data Bus", H20 A11/SA9 (out) "Asynchronous Address Bus/Synchronous Address Bus", J17 A12/SA10 (out) "Asynchronous Address Bus/Synchronous Address Bus", J18 D11 (io) "Data Bus", J19 D9 (io) "Data Bus", J20 A10/SA8 (out) "Asynchronous Address Bus/Synchronous Address Bus", K17 D10 (io) "Data Bus", K18 A7/SA5 (out) "Asynchronous Address Bus/Synchronous Address Bus", K19 A9/SA7 (out) "Asynchronous Address Bus/Synchronous Address Bus", K20 A8/SA6 (out) "Asynchronous Address Bus/Synchronous Address Bus", L2 PGMCLK (io) "Programmable Clock (14.7456 MHz MAX.)", L4 PA1/LCDVD17 (io) "GPIO - Port ALCD Data pin", L17 D7 (io) "Data Bus", L18 D6 (io) "Data Bus", L19 D8 (io) "Data Bus", L20 A5/SA3 (out) "Asynchronous Address Bus/Synchronous Address Bus", M1 PA4 (io) "GPIO - Port A", M2 PA0/LCDVD16 (io) "GPIO - Port A/LCD Data pin", M3 PA2 (io) "GPIO - Port A", M4 PA3 (io) "GPIO - Port A", M16 D4 (io) "Data Bus", M17 A6/SA4 (out) "Asynchronous Address Bus/Synchronous Address Bus", M18 D5 (io) "Data Bus", M19 A3/SA1 (out) "Asynchronous Address Bus/Synchronous Address Bus", M20 A4/SA2 (out) "Asynchronous Address Bus/Synchronous Address Bus", N1 PA7 (io) "GPIO - Port A", N2 PA6 (io) "GPIO - Port A", N3 PA5 (io) "GPIO - Port A", N4 PB0/UARTRX1 (io) "GPIO - Port B/UART1 Receive Data Input", N5 PB5/UARTDSR3 (io) "GPIO - Port B/UART3 Data Set Ready", N16 A1 (out) "Asynchronous Address Bus", N17 A2/SA0 (out) "Asynchronous Address Bus/Synchronous Address Bus", N18 D2 (io) "Data Bus", N19 D0 (io) "Data Bus", N20 D3 (io) "Data Bus", P1 PB3/UARTCTS3 (io) "GPIO - Port B/UART3 Clear to Send", P2 PB2/UARTRX3 (io) "GPIO - Port B/UART3 Receive Data Input", P3 PB1/UARTTX3 (io) "GPIO - Port B/UART3 Transmit Data Input", P4 PC0/UARTTX1 (io) "GPIO - Port C/UART1 Transmit Data Input", P17 A0 (out) "Asynchronous Address Bus", P18 nWAIT (in) "Asynchronous Memory Wait; pull HIGH if unused", P19 nCS3 (out) "Asynchronous Memory Chip Select", P20 D1 (io) "Data Bus", R1 PB7/SMBCLK (io) "GPIO - Port B/Smart Battery Clock", R2 PB6/SWID/SMBD (io) "GPIO - Port B/Single Wire Data/Smart Battery Data", R3 PB4/UARTDCD3 (io) "GPIO - Port B/UART3 Data Carrier Detect", R4 PC4 (io) "GPIO - Port C", R17 nCS7 (out) "Asynchronous Memory Chip Select", R18 nCS2 (out) "Asynchronous Memory Chip Select", R19 nCS1 (out) "Asynchronous Memory Chip Select", R20 nCS6 (out) "Asynchronous Memory Chip Select", T1 PC1 (io) "GPIO - Port C", T2 PC2 (io) "GPIO - Port C", T3 PC3 (io) "GPIO - Port C", T16 CLKEN (io) "External Oscillator Enable Output", T19 XTAL32IN (in) "32.768 kHz Real Time Clock input", T20 XTAL32OUT (out) "32.768 kHz Real Time Clock output", U1 PC5 (io) "GPIO - Port C", U2 PC6 (io) "GPIO - Port C", U9 nBLE1 (out) "Byte Lane Enable 1", U10 PD1/LCDVD9 (io) "GPIO - Port D/LCD Data pin", U11 PD5/LCDVD13 (io) "GPIO - Port D/LCD Data pin", V1 PC7 (io) "GPIO - Port C", V11 PD3/LCDVD11 (io) "GPIO - Port D/LCD Data pin", V12 PD6/LCDVD14 (io) "GPIO - Port D/LCD Data pin", V18 nCS0 (out) "Asynchronous Memory Chip Select", W11 PD4/LCDVD12 (io) "GPIO - Port D/LCD Data pin", W12 PD2/LCDVD10 (io) "GPIO - Port D/LCD Data pin", W13 WIDTH1 (in) "Boot Width Pins", Y7 nBLE2 (out) "Byte Lane Enable 2", Y11 PD0/LCDVD8 (io) "GPIO - Port D/LCD Data pin", Y12 PD7/LCDVD15 (io) "GPIO - Port D/LCD Data pin", Y13 WIDTH0 (in) "Boot Width Pins", Y18 XTALIN (in) "14.7456 MHz Crystal Oscillator input", Y19 XTALOUT (out) "14.7456 MHz Crystal Oscillator output", Y20 INTBOOT (in) "(Low) Selects boot device according to MEDCHG bit. (High) lower 64KB addresses mapped to internal Boot ROM"
part B pins: A1 PE7/SCDATEN (io) "GPIO - Port E", A2 DACK1 (io) "DMA Acknowledge", A3 DREQ0 (in) "DMA Request", A4 MMCDATA2 (io) "MultiMediaCard Data", A5 MMCCLK (io) "MultiMediaCard Clock (20 MHz MAX.)", A6 ACSYNC (out) "Audio Codec (AC97/ACI) Synchronization", A7 PF6/INT6/PCRDY1 (io) "GPIO - Port F/Interrupt/Ready for Card 1 for PC Card (PCMCIA or CompactFlash)", A8 PF2/INT2 (io) "GPIO - Port F/Interrupt", A9 PF0/INT0 (io) "GPIO - Port F/Interrupt", A10 nPWME1 (io) "DC-DC Converter 1 PWM 1 Enable", A11 SCCLK (io) "Smart Card Interface Clock", B1 TDO "JTAG Data Out", B2 PE6/SCIN (io) "GPIO - Port E", B3 DREQ1 (in) "DMA Request", B4 MMCDATA3 (io) "MultiMediaCard Data", B5 MMCDATA1 (io) "MultiMediaCard Data", B6 ACIN (in) "Audio Codec (AC97/ACI) Input", B7 ACOUT (out) "Audio Codec (AC97/ACI) Output", B8 PF4/INT4 (io) "GPIO - Port F/Interrupt", B9 PWM2 (out) "PWM Output", B10 SCVCCEN (out) "Smart Card Interface VCC Enable", B11 nSCRESET (out) "Smart Card Interface Reset", C2 TCK (in) "JTAG Clock", C3 PE5/SCCLKEN (io) "GPIO - Port E", C4 DEOT0 (io) "DMA End of Transfer", C6 MMCDATA0 (io) "MultiMediaCard Data", C7 ACBITCLK (io) "Audio Codec (AC97/ACI) Clock", C8 PF3/INT3 (io) "GPIO - Port F/Interrupt", C9 PWMSYNC (in) "PWM Synchronizing Input for PWM2", C10 PWM1 (io) "DC-DC Converter Output (Pulse Width Modulated)", C11 PWM0 (io) "DC-DC Converter Output (Pulse Width Modulated)", D1 nBATCHG (in) "Battery Change", D3 TDI (in) "JTAG Data In", D4 PE4/SCCLKIN (io) "GPIO - Port E", D5 DACK0 (io) "DMA Acknowledge", D6 CTCLKIN (in) "Counter Timer Clock Input", D7 MMCCMD (io) "MultiMediaCard Command", D8 PF5/INT5/SCDETECT (io) "GPIO - Port F/Interrupt/Smart Card Interface Card Detect Signal", D9 PF1/INT1 (io) "GPIO - Port F/Interrupt", D10 PWM3 (out) "PWM Output", D11 nPWME0 (io) "DC-DC Converter 0 PWM 0 Enable", E2 BATOK (in) "Battery OK", E3 TMS (in) "JTAG Test Mode Select", E5 DEOT1 (io) "DMA End of Transfer", E8 PF7/INT7/PCRDY2 (io) "GPIO - Port F/Interrupt/Ready for Card 2 for PC Card (PCMCIA or CompactFlash)", E12 SCIO (io) "Smart Card Interface I/O", F1 UARTDCD2 (io) "UART2 Data Carrier Detect Signal", F2 UARTCTS2 (io) "UART2 Clear to Send Signal", G1 UARTIRRX1 (io) "IrDA Receive", G2 UARTDSR2 (io) "UART2 Data Set Ready Signal", G3 UARTIRTX1 (io) "IrDA Transmit", G4 UARTRX2 (io) "UART2 Receive Data Input", H1 KMIDAT (io) "Keyboard/Mouse Data", H2 UARTTX2 (io) "UART2 Transmit Data Output", H3 KMICLK (io) "Keyboard/Mouse Clock", H4 COL1 (io) "Keyboard Interface", H5 COL2 (io) "Keyboard Interface", J1 COL3 (io) "Keyboard Interface", J2 COL0 (io) "Keyboard Interface", J3 COL4 (io) "Keyboard Interface", J4 COL5 (io) "Keyboard Interface", J5 COL6 (io) "Keyboard Interface", K1 TBUZ (io) "Timer Buzzer Output (254 kHz MAX.)", K2 COL7 (io) "Keyboard Interface", K3 SSPCLK (out) "Synchronous Serial Port Clock", K4 SSPFRM (out) "Synchronous Serial Port Frame Sync", L1 SSPRX (io) "Synchronous Serial Port Receive", L3 SSPTX (io) "Synchronous Serial Port Transmit", T4 LCDFP/LCDSPS (out) "LCD Frame Pulse/ALI Reset Row Driver Counter", T5 PG4/nPCREG (io) "GPIO - Port G/Register Memory Access for PC Card (PCMCIA or CompactFlash)", T8 LCDVD1 (out) "LCD Video Data Interface", T9 PE3/LCDVD7 (io) "GPIO - Port E/LCD Data pin", T13 AN8 (in) "ADC Input", T17 USBHPWR (out) "USB Host Power", U3 LCDCLS (out) "ALI Clock for Row Drivers", U4 LCDUBL (out) "ALI Up, Down signal for reverse scanning", U5 PG3/nPCIOW (io) "GPIO - Port G/IO Write Strobe for PC Card (PCMCIA or CompactFlash)", U6 PH3/CFA9/PCMCIAA25/nPCSLOTE2 (io) "GPIO - Port H/Address Bit 9 for PC Card (CompactFlash) in Single Card mode/Address Bit 25 for PC Card (PCMCIA)/Enable Card 2 for PC Card (PCMCIA or CompactFlash)", U7 PH7/nPCSTATRE (io) "GPIO - Port H/Status Read Enable for PC Card (PCMCIA or CompactFlash)", U8 LCDCLKIN (in) "External Clock Input for LCD controller", U12 BATCNTL (out) "Battery Control for A/D controller battery monitor", U13 AN3/LR/Y- (in) "ADC Input/Touch Screen Controller Lower Right/Touch Screen Controller Y-", U16 nTEST0 (in) "Test Pin. Pull LOW for JTAG mode", U17 USBDCP (in) "USB Device Full Speed Pull-up Resistor Control", U19 USBDN (io) "USB Device Data Negative (Differential Pair)", U20 USBDP (io) "USB Device Data Positive (Differential Pair)", V2 LCDLP/LCDHRLP (out) "LCD Linepulse/ALI Latch Pulse", V3 LCDSPL (out) "ALI Start Pulse Left for reverse scanning", V4 LCDLBR (out) "ALI Output for reverse scanning", V5 LCDPS (out) "ALI Power Save", V6 PH0/PCRESET1 (io) "GPIO - Port H/Reset Card 1 for PC Card (PCMCIA or CompactFlash)", V7 PH6/nAC97RESET (io) "GPIO - Port H/AC97 Reset", V8 LCDVD0 (out) "LCD Video Data Interface", V9 LCDENAB/LCDM (out) "LCD TFT Data Enable/LCD STN AC Bias", V10 PE2/LCDVD6 (io) "GPIO - Port E/LCD Data pin", V14 AN4/WIPER (in) "ADC Input/Wiper input from 5-wire Touch Screen", V15 AN6 (in) "ADC Input", V17 USBHOVRCURR (in) "USB Host Overcurrent", V19 USBHDP1 (io) "USB Data Host Positive 1 (Differential Pair)", V20 USBHDN1 (io) "USB Data Host Negative 1 (Differential Pair)", W1 LCDSPR (out) "ALI Start Pulse Right for normal scanning", W2 LCDMOD (out) "ALI MOD Signal used by the row driver", W3 LCDREV (out) "ALI Reverse", W4 PG1/nPCWE (io) "GPIO - Port G/Write Enable for PC Card (PCMCIA or CompactFlash)", W5 PG5/nPCCE1 (io) "GPIO - Port G/Card Enable 1 for PC Card (PCMCIA or CompactFlash)", W6 PG7/PCDIR (io) "GPIO - Port G/Direction for PC Card (PCMCIA or CompactFlash)", W7 PH2/nPCSLOTE1 (io) "GPIO - Port H/Enable Card 1 for PC Card (PCMCIA or CompactFlash)", W8 PH4/nPCWAIT1 (io) "GPIO - Port H//WAIT Signal for Card 1 for PC Card (PCMCIA or CompactFlash)", W9 LCDVD2 (out) "LCD Video Data Interface", W10 PE1/LCDVD5 (io) "GPIO - Port E/LCD Data pin", W14 AN2/LL/Y+ (in) "ADC Input/Touch Screen Controller Lower Left/Touch Screen Controller Y", W15 AN7 (in) "ADC Input", W18 nTEST1 (in) "Test Pin. Pull LOW for JTAG mode", W19 USBHDP0 (io) "USB Data Host Positive 0 (Differential Pair)", W20 USBHDN0 (io) "USB Data Host Negative 0 (Differential Pair)", Y1 LCDVDDEN (out) "ALI Power Sequence Control", Y2 PG0/nPCOE (io) "GPIO - Port G/Output Enable for PC Card (PCMCIA or CompactFlash)", Y3 PG2/nPCIOR (io) "GPIO - Port G/IO Read Strobe for PC Card (PCMCIA or CompactFlash)", Y4 PG6/nPCCE2 (io) "GPIO - Port G/Card Enable 2 for PC Card (PCMCIA or CompactFlash)", Y5 PH1/CFA8/PCRESET2 (io) "GPIO - Port H/Address Bit 8 for PC Card (CompactFlash)/Reset Card 2 for PC Card (PCMCIA or CompactFlash)", Y6 PH5/CFA10/PCMCIAA24/nPCWAIT2 (io) "GPIO - Port H/Address Bit 10 for PC Card (CompactFlash) in Single Card mode/Address Bit 24 for PC Card (PCMCIA) in Single Card mode/WAIT Signal for Card 2 for PC Card (PCMCIA or CompactFlash) in Dual Card mode", Y8 LCDVD3 (out) "LCD Video Data Interface", Y9 PE0/LCDVD4 (io) "GPIO - Port E/LCD Data pin", Y10 LCDDCLK (out) "LCD Pixel Clock", Y14 AN9 (in) "ADC Input", Y15 AN1/UR/X- (in) "ADC Input/Touch Screen Controller Upper Right/Touch Screen Controller X-", Y16 AN0/UL/X+ (in) "ADC Input/Touch Screen Controller Upper Left/Touch Screen Controller X"
part C pins: E6 VSSC (power) "Core Ground", E7 VDDC (power) "Core Power", E9 VDDC (power) "Core Power", E10 VDD (power) "I/O Ring Power", E11 VDD (power) "I/O Ring Power", E14 VDDC (power) "Core Power", E15 VSSC (power) "Core Ground", F5 VSSC (power) "Core Ground", F16 VSSC (power) "Core Ground", G5 VDDC (power) "Core Power", G16 VDDC (power) "Core Power", H10 VDD (power) "I/O Ring Power", H11 VDD (power) "I/O Ring Power", J9 VSS (power) "I/O Ring Ground", J10 VSS (power) "I/O Ring Ground", J11 VSS (power) "I/O Ring Ground", J12 VSS (power) "I/O Ring Ground", J16 VSSC (power) "Core Ground", K5 VDD (power) "I/O Ring Power", K8 VDD (power) "I/O Ring Power", K9 VSS (power) "I/O Ring Ground", K10 VSS (power) "I/O Ring Ground", K11 VSS (power) "I/O Ring Ground", K12 VSS (power) "I/O Ring Ground", K13 VDD (power) "I/O Ring Power", K16 VDD (power) "I/O Ring Power", L5 VDD (power) "I/O Ring Power", L8 VDD (power) "I/O Ring Power", L9 VSS (power) "I/O Ring Ground", L10 VSS (power) "I/O Ring Ground", L11 VSS (power) "I/O Ring Ground", L12 VSS (power) "I/O Ring Ground", L13 VDD (power) "I/O Ring Power", L16 VDD (power) "I/O Ring Power", M5 VSSC (power) "Core Ground", M9 VSS (power) "I/O Ring Ground", M10 VSS (power) "I/O Ring Ground", M11 VSS (power) "I/O Ring Ground", M12 VSS (power) "I/O Ring Ground", N10 VDD (power) "I/O Ring Power", N11 VDD (power) "I/O Ring Power", P5 VDDC (power) "Core Power", P16 VDDC (power) "Core Power", R5 VSSC (power) "Core Ground", R16 VSSC (power) "Core Ground", T6 VSSC (power) "Core Ground", T7 VDDC (power) "Core Power", T10 VDD (power) "I/O Ring Power", T11 VDD (power) "I/O Ring Power", T12 VDDC (power) "Core Power", T14 VDDC (power) "Core Power", T15 VSSC (power) "Core Ground", T18 VSS (power) "I/O Ring Ground", U14 VSS_A (in) "Connect pin to either VSS or VSSA", U15 VSSA (power) "Analog Ground for PLL1 and PLL2", U18 VDD (power) "I/O Ring Power", V13 VSSAD (power) "Analog Ground for A/D, Touch Screen Controller", V16 VSSA (power) "Analog Ground for PLL1 and PLL2", W16 VDDAD (power) "Analog Power for A/D, Touch Screen Controller", W17 VDDA (power) "Analog Power for PLL1 and PLL2", Y17 VDDA (power) "Analog Power for PLL1 and PLL2"

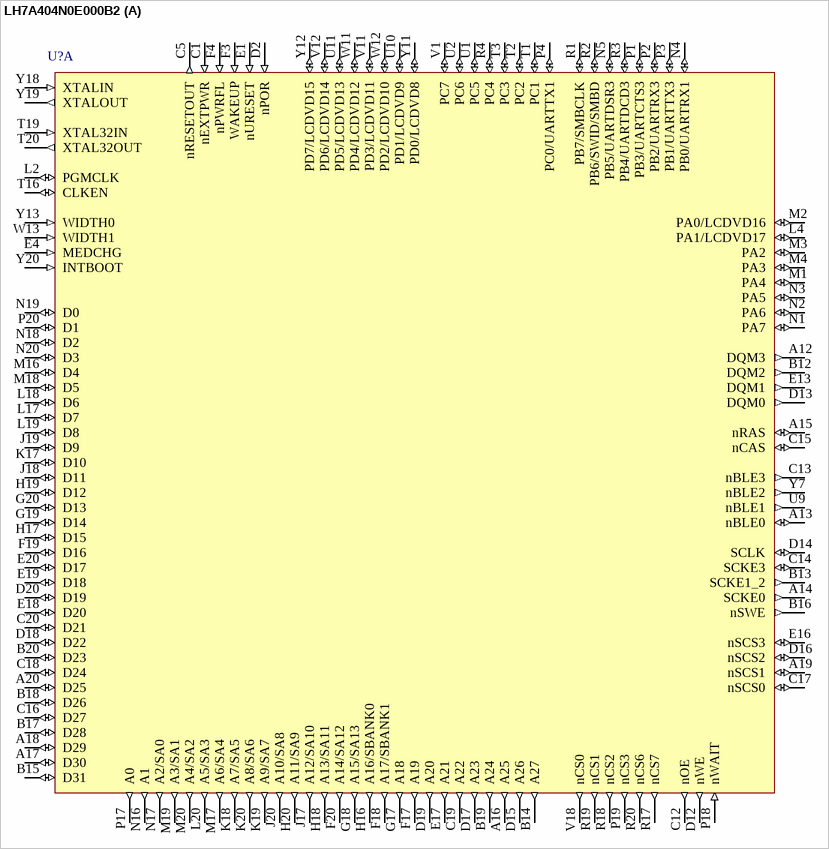
[diagram p8: symbol LH7A404N0E000B2]

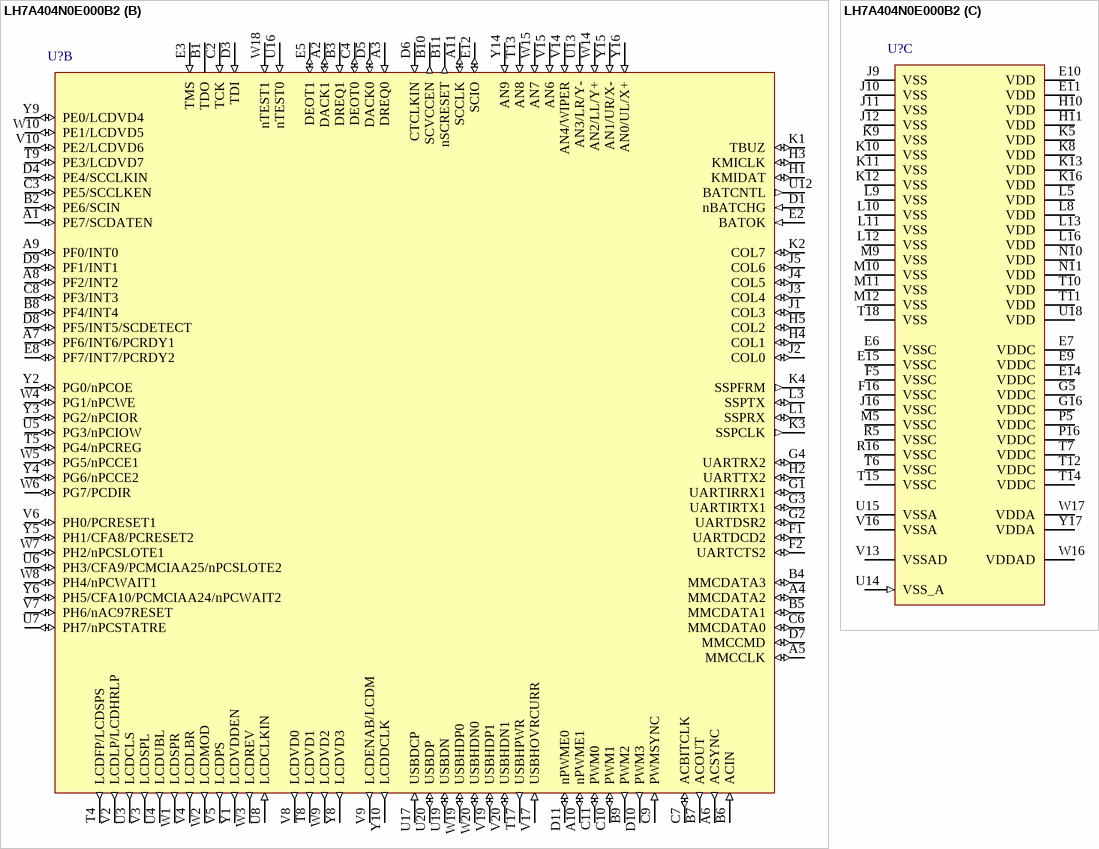
[diagram p9: symbol LH7A404N0E000B2]